# Altium schematic symbol library TPSM863253RDXR.SchLib: 2 symbols
Pins are listed as number, name and electrical type; pins without a type are passive.

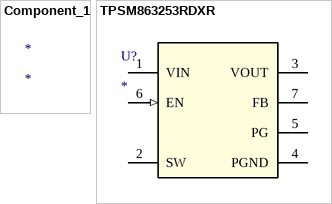
[diagram p0: symbols Component_1 to TPSM863253RDXR]

## Component_1
designator *

## TPSM863253RDXR
designator U?
No Description Available; Mfr_Name: Texas Instruments; TYPE: TYPE; RefDes: RefDes
footprint RDX0007A-MFG
pins: 1 VIN (power), 2 SW, 3 VOUT (power), 4 PGND (power), 5 PG (oc), 6 EN (in), 7 FB